# EAGLE library part HV9910 (library dword1511-pmic-dcdc)
Wide-input Buck LED driver with external FET switch
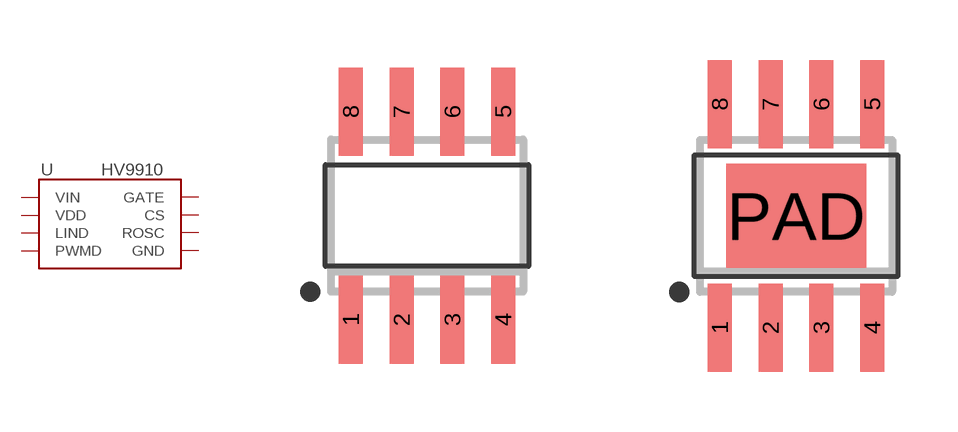
[diagram p20: symbol with the pads of SOIC-8; footprints SOIC-8, SOIC-8P]

Designator prefix U

## HV9910LG, HV9910BLG, HV9910CLG  [SOIC-8]
1  VIN  pwr
2  CS  in
3  GND  pwr
4  GATE  out
5  PWMD  in
6  VDD  out
7  LIND  in
8  ROSC  out

## HV9910CSG  [SOIC-8P]
Pads as for SOIC-8

## HV9910NG, HV9910BNG, HV9910CNG  [SOIC-16]
1  VIN  pwr
4  CS  in
5  GND  pwr
8  GATE  out
9  PWMD  in
12  VDD  out
13  LIND  in
14  ROSC  out

## Footprint SOIC-8 (pad centres in mm)
smd 0.6 x 2.2: 1 -1.905,-2.6; 2 -0.635,-2.6; 3 0.635,-2.6; 4 1.905,-2.6; 5 1.905,2.6; 6 0.635,2.6; 7 -0.635,2.6; 8 -1.905,2.6

## Footprint SOIC-8P (pad centres in mm)
smd 0.6 x 2.2: 1 -1.905,-2.794; 2 -0.635,-2.794; 3 0.635,-2.794; 4 1.905,-2.794; 5 1.905,2.794; 6 0.635,2.794; 7 -0.635,2.794; 8 -1.905,2.794
smd 3.5 x 2.6: PAD 0,0

## Footprint SOIC-16 (pad centres in mm)
smd 0.6 x 2.2: 1 -4.445,-2.6; 2 -3.175,-2.6; 3 -1.905,-2.6; 4 -0.635,-2.6; 5 0.635,-2.6; 6 1.905,-2.6; 7 3.175,-2.6; 8 4.445,-2.6; 9 4.445,2.6; 10 3.175,2.6; 11 1.905,2.6; 12 0.635,2.6; 13 -0.635,2.6; 14 -1.905,2.6; 15 -3.175,2.6; 16 -4.445,2.6